# Altium integrated library NSC Interface.IntLib: 1288 symbols (part 43 of 45)
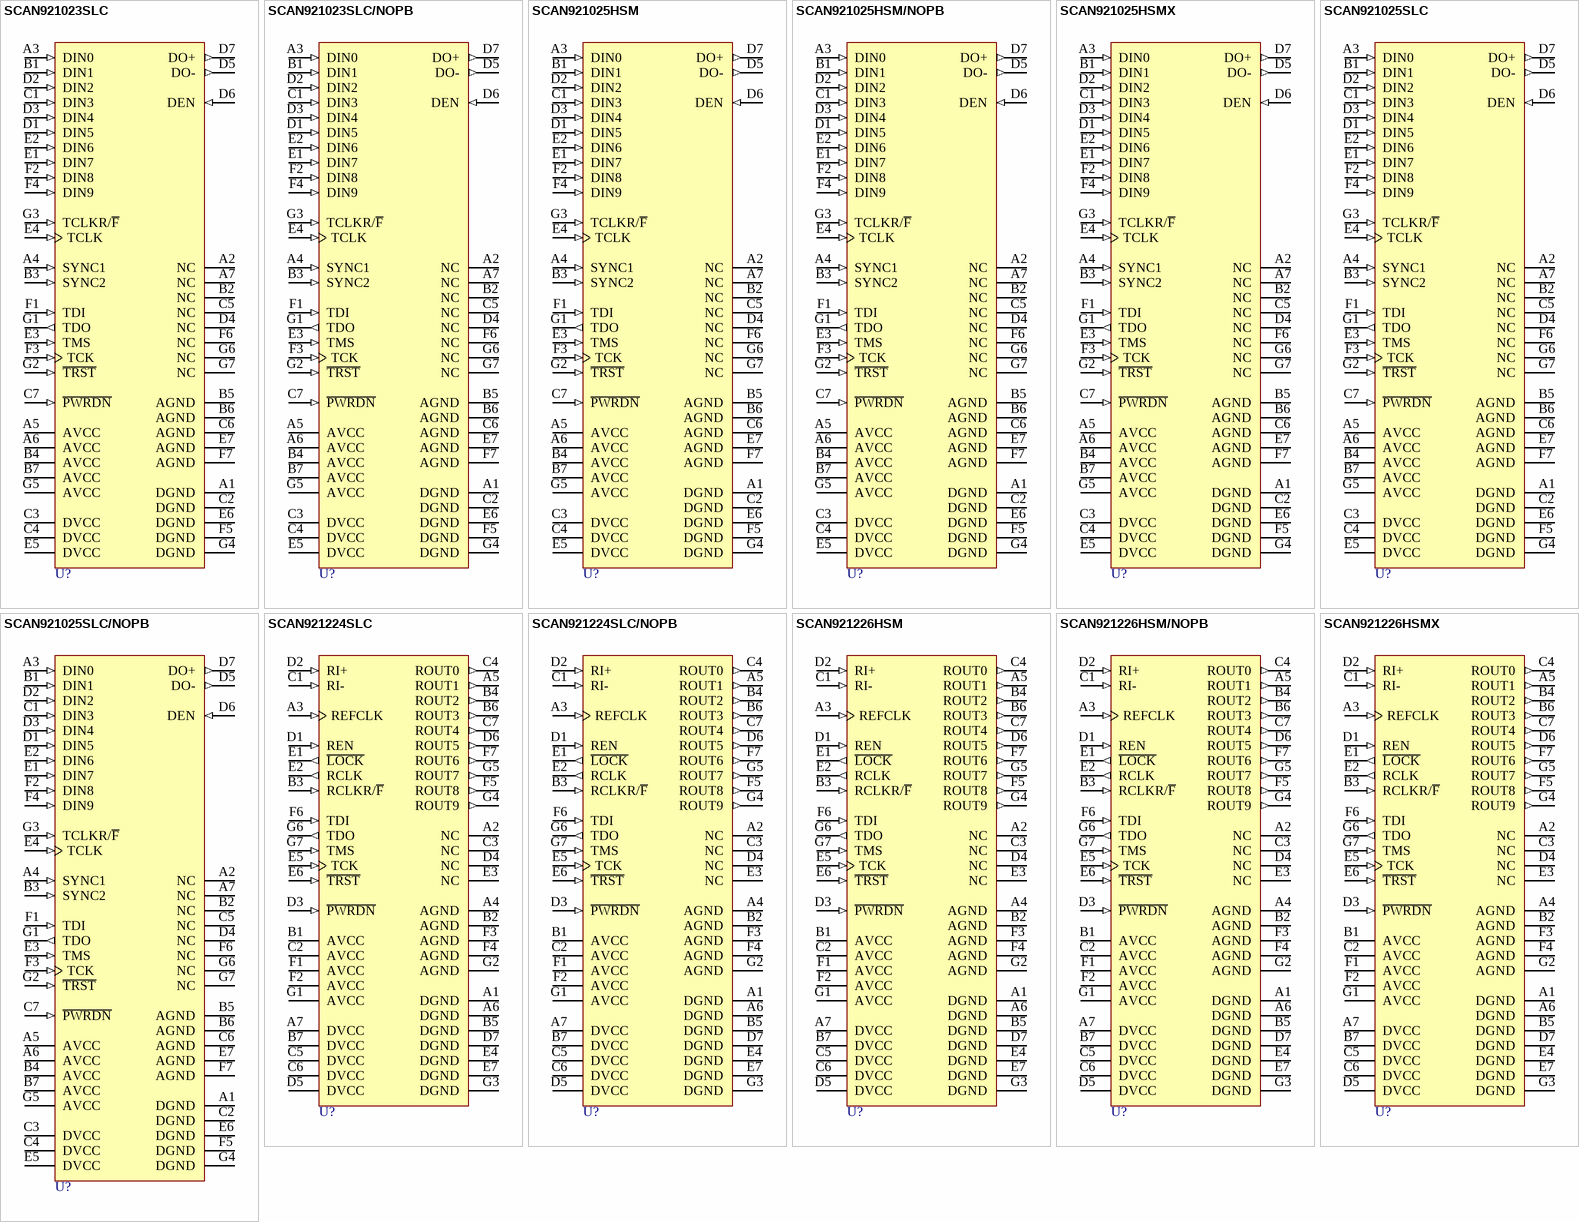
[diagram p154: symbols SCAN921023SLC to SCAN921226HSMX]

## SCAN921025HSM/NOPB
designator U?
High Temperature 20MHz - 80MHz 10-Bit Serializer with IEEE 1149.1 Test Access, 49-pin FBGA, Pb-Free; PartNumber: SCAN921025HSM/NOPB; Manufacturer: National Semiconductor; PackageTopMarking: NSUZXYTTE#*SCAN921025*HSM; PowerWise: N; CompType: Interface IC; Published: 1-Mar-2010; DatasheetVersion: Dec-2005; PackageVersion: revB, Jan, 2003; PackageReference: SLC49A; Publisher: Altium Limited; PackageDescription: FBGA, Plastic, Laminated, 7 x 7 x 1.4mm Body, 49 Ball, 0.8mm Pitch; Supplier 1: Digi-Key; Supplier Part Number 1: SCAN921025HSM-ND; RoHS: Y; PinCount: 49; ComponentLink1Description: SCAN921025H Datasheet; ComponentLink1URL: http://www.national.com/ds/SC/SCAN921025H.pdf; ComponentLink2Description: SCAN921025H Web Page; ComponentLink2URL: http://www.national.com/pf/SC/SCAN921025H.html; ComponentLink3Description: SLC49A Package Page; ComponentLink3URL: http://www.national.com/packaging/folders/slc49a.html
footprint SLC49A (BGA, 49-Leads, Body 7x7mm, Pitch 0.8mm)
pins: A1 DGND (power), A2 NC, A3 DIN0 (in), A4 SYNC1 (in), A5 AVCC (power), A6 AVCC (power), A7 NC, B1 DIN1 (in), B2 NC, B3 SYNC2 (in), B4 AVCC (power), B5 AGND (power), B6 AGND (power), B7 AVCC (power), C1 DIN3 (in), C2 DGND (power), C3 DVCC (power), C4 DVCC (power), C5 NC, C6 AGND (power), C7 ~{PWRDN} (in), D1 DIN5 (in), D2 DIN2 (in), D3 DIN4 (in), D4 NC, D5 DO- (out), D6 DEN (in), D7 DO+ (out), E1 DIN7 (in), E2 DIN6 (in), E3 TMS (in), E4 TCLK (in), E5 DVCC (power), E6 DGND (power), E7 AGND (power), F1 TDI (in), F2 DIN8 (in), F3 TCK (in), F4 DIN9 (in), F5 DGND (power), F6 NC, F7 AGND (power), G1 TDO (out), G2 ~{TRST} (in), G3 TCLKR/~{F} (in), G4 DGND (power), G5 AVCC (power), G6 NC, G7 NC

## SCAN921025HSMX
designator U?
High Temperature 20MHz - 80MHz 10-Bit Serializer with IEEE 1149.1 Test Access, 49-pin FBGA; PartNumber: SCAN921025HSMX; Manufacturer: National Semiconductor; PackageTopMarking: NSUZXYTTE#*SCAN921025*HSM; PowerWise: N; CompType: Interface IC; Published: 1-Mar-2010; DatasheetVersion: Dec-2005; PackageVersion: revB, Jan, 2003; PackageReference: SLC49A; Publisher: Altium Limited; PackageDescription: FBGA, Plastic, Laminated, 7 x 7 x 1.4mm Body, 49 Ball, 0.8mm Pitch; RoHS: N; PinCount: 49; ComponentLink1Description: SCAN921025H Datasheet; ComponentLink1URL: http://www.national.com/ds/SC/SCAN921025H.pdf; ComponentLink2Description: SCAN921025H Web Page; ComponentLink2URL: http://www.national.com/pf/SC/SCAN921025H.html; ComponentLink3Description: SLC49A Package Page; ComponentLink3URL: http://www.national.com/packaging/folders/slc49a.html
footprint SLC49A (BGA, 49-Leads, Body 7x7mm, Pitch 0.8mm)
pins: A1 DGND (power), A2 NC, A3 DIN0 (in), A4 SYNC1 (in), A5 AVCC (power), A6 AVCC (power), A7 NC, B1 DIN1 (in), B2 NC, B3 SYNC2 (in), B4 AVCC (power), B5 AGND (power), B6 AGND (power), B7 AVCC (power), C1 DIN3 (in), C2 DGND (power), C3 DVCC (power), C4 DVCC (power), C5 NC, C6 AGND (power), C7 ~{PWRDN} (in), D1 DIN5 (in), D2 DIN2 (in), D3 DIN4 (in), D4 NC, D5 DO- (out), D6 DEN (in), D7 DO+ (out), E1 DIN7 (in), E2 DIN6 (in), E3 TMS (in), E4 TCLK (in), E5 DVCC (power), E6 DGND (power), E7 AGND (power), F1 TDI (in), F2 DIN8 (in), F3 TCK (in), F4 DIN9 (in), F5 DGND (power), F6 NC, F7 AGND (power), G1 TDO (out), G2 ~{TRST} (in), G3 TCLKR/~{F} (in), G4 DGND (power), G5 AVCC (power), G6 NC, G7 NC

## SCAN921025SLC
designator U?
30MHz - 80MHz 10-Bit Serializer with IEEE 1149.1 Test Access, 49-pin FBGA; PartNumber: SCAN921025SLC; Manufacturer: National Semiconductor; PackageTopMarking: NSUZXYTTE#*SCAN921025*SLC; PowerWise: N; CompType: Interface IC; Published: 4-Dec-2008; DatasheetVersion: Dec-2001; PackageVersion: revB, Jan, 2003; PackageReference: SLC49A; Publisher: Altium Limited; PackageDescription: FBGA, Plastic, Laminated, 7 x 7 x 1.4mm Body, 49 Ball, 0.8mm Pitch; RoHS: N; PinCount: 49; ComponentLink1Description: SCAN921025 Datasheet; ComponentLink1URL: http://www.national.com/ds/SC/SCAN921025.pdf; ComponentLink2Description: SCAN921025 Web Page; ComponentLink2URL: http://www.national.com/pf/SC/SCAN921025.html; ComponentLink3Description: SLC49A Package Page; ComponentLink3URL: http://www.national.com/packaging/folders/slc49a.html
footprint SLC49A (BGA, 49-Leads, Body 7x7mm, Pitch 0.8mm)
pins: A1 DGND (power), A2 NC, A3 DIN0 (in), A4 SYNC1 (in), A5 AVCC (power), A6 AVCC (power), A7 NC, B1 DIN1 (in), B2 NC, B3 SYNC2 (in), B4 AVCC (power), B5 AGND (power), B6 AGND (power), B7 AVCC (power), C1 DIN3 (in), C2 DGND (power), C3 DVCC (power), C4 DVCC (power), C5 NC, C6 AGND (power), C7 ~{PWRDN} (in), D1 DIN5 (in), D2 DIN2 (in), D3 DIN4 (in), D4 NC, D5 DO- (out), D6 DEN (in), D7 DO+ (out), E1 DIN7 (in), E2 DIN6 (in), E3 TMS (in), E4 TCLK (in), E5 DVCC (power), E6 DGND (power), E7 AGND (power), F1 TDI (in), F2 DIN8 (in), F3 TCK (in), F4 DIN9 (in), F5 DGND (power), F6 NC, F7 AGND (power), G1 TDO (out), G2 ~{TRST} (in), G3 TCLKR/~{F} (in), G4 DGND (power), G5 AVCC (power), G6 NC, G7 NC

## SCAN921025SLC/NOPB
designator U?
30MHz - 80MHz 10-Bit Serializer with IEEE 1149.1 Test Access, 49 pin FBGA; PartNumber: SCAN921025SLC/NOPB; Manufacturer: National Semiconductor; PackageTopMarking: NSUZXYTTE#*SCAN921025*SLC; PowerWise: N; CompType: Interface IC; Published: 16-Nov-2010; DatasheetVersion: Dec-2001; PackageVersion: revB, Jan, 2003; PackageReference: SLC49A; Publisher: Altium Limited; PackageDescription: FBGA, Plastic, Laminated, 7 x 7 x 1.4mm Body, 49 Ball, 0.8mm Pitch; Supplier 1: Digi-Key; Supplier Part Number 1: SCAN921025SLC-ND; RoHS: Y; PinCount: 49; ComponentLink1Description: SCAN921025 Datasheet; ComponentLink1URL: http://www.national.com/ds/SC/SCAN921025.pdf; ComponentLink2Description: SCAN921025 Web Page; ComponentLink2URL: http://www.national.com/pf/SC/SCAN921025.html; ComponentLink3Description: SLC49A Package Page; ComponentLink3URL: http://www.national.com/packaging/folders/slc49a.html
footprint SLC49A (BGA, 49-Leads, Body 7x7mm, Pitch 0.8mm)
pins: A1 DGND (power), A2 NC, A3 DIN0 (in), A4 SYNC1 (in), A5 AVCC (power), A6 AVCC (power), A7 NC, B1 DIN1 (in), B2 NC, B3 SYNC2 (in), B4 AVCC (power), B5 AGND (power), B6 AGND (power), B7 AVCC (power), C1 DIN3 (in), C2 DGND (power), C3 DVCC (power), C4 DVCC (power), C5 NC, C6 AGND (power), C7 ~{PWRDN} (in), D1 DIN5 (in), D2 DIN2 (in), D3 DIN4 (in), D4 NC, D5 DO- (out), D6 DEN (in), D7 DO+ (out), E1 DIN7 (in), E2 DIN6 (in), E3 TMS (in), E4 TCLK (in), E5 DVCC (power), E6 DGND (power), E7 AGND (power), F1 TDI (in), F2 DIN8 (in), F3 TCK (in), F4 DIN9 (in), F5 DGND (power), F6 NC, F7 AGND (power), G1 TDO (out), G2 ~{TRST} (in), G3 TCLKR/~{F} (in), G4 DGND (power), G5 AVCC (power), G6 NC, G7 NC

## SCAN921224SLC
designator U?
20 MHz-66MHz 10-Bit Deserializer with IEEE 1149.1 Test Access, 49-pin FBGA; PartNumber: SCAN921224SLC; Manufacturer: National Semiconductor; PackageTopMarking: NSUZXYTTE#*SCAN921224*SLC; PowerWise: N; CompType: Interface IC; Published: 4-Dec-2008; DatasheetVersion: Apr-2001; PackageVersion: revB, Jan, 2003; PackageReference: SLC49A; Publisher: Altium Limited; PackageDescription: FBGA, Plastic, Laminated, 7 x 7 x 1.4mm Body, 49 Ball, 0.8mm Pitch; RoHS: N; PinCount: 49; ComponentLink1Description: SCAN921224 Datasheet; ComponentLink1URL: http://www.national.com/ds/SC/SCAN921224.pdf; ComponentLink2Description: SCAN921224 Web Page; ComponentLink2URL: http://www.national.com/pf/SC/SCAN921224.html; ComponentLink3Description: SLC49A Package Page; ComponentLink3URL: http://www.national.com/packaging/folders/slc49a.html
footprint SLC49A (BGA, 49-Leads, Body 7x7mm, Pitch 0.8mm)
pins: A1 DGND (power), A2 NC, A3 REFCLK (in), A4 AGND (power), A5 ROUT1 (out), A6 DGND (power), A7 DVCC (power), B1 AVCC (power), B2 AGND (power), B3 RCLKR/~{F} (in), B4 ROUT2 (out), B5 DGND (power), B6 ROUT3 (out), B7 DVCC (power), C1 RI- (in), C2 AVCC (power), C3 NC, C4 ROUT0 (out), C5 DVCC (power), C6 DVCC (power), C7 ROUT4 (out), D1 REN (in), D2 RI+ (in), D3 ~{PWRDN} (in), D4 NC, D5 DVCC (power), D6 ROUT5 (out), D7 DGND (power), E1 ~{LOCK} (out), E2 RCLK (out), E3 NC, E4 DGND (power), E5 TCK (in), E6 ~{TRST} (in), E7 DGND (power), F1 AVCC (power), F2 AVCC (power), F3 AGND (power), F4 AGND (power), F5 ROUT8 (out), F6 TDI (in), F7 ROUT6 (out), G1 AVCC (power), G2 AGND (power), G3 DGND (power), G4 ROUT9 (out), G5 ROUT7 (out), G6 TDO (out), G7 TMS (in)

## SCAN921224SLC/NOPB
designator U?
20 MHz-66MHz 10-Bit Deserializer with IEEE 1149.1 Test Access, 49-pin FBGA, Pb-Free; PartNumber: SCAN921224SLC/NOPB; Manufacturer: National Semiconductor; PackageTopMarking: NSUZXYTTE#*SCAN921224*SLC; PowerWise: N; CompType: Interface IC; Published: 1-Mar-2010; DatasheetVersion: Apr-2001; PackageVersion: revB, Jan, 2003; PackageReference: SLC49A; Publisher: Altium Limited; PackageDescription: FBGA, Plastic, Laminated, 7 x 7 x 1.4mm Body, 49 Ball, 0.8mm Pitch; Supplier 1: Digi-Key; Supplier Part Number 1: SCAN921224SLC-ND; RoHS: Y; PinCount: 49; ComponentLink1Description: SCAN921224 Datasheet; ComponentLink1URL: http://www.national.com/ds/SC/SCAN921224.pdf; ComponentLink2Description: SCAN921224 Web Page; ComponentLink2URL: http://www.national.com/pf/SC/SCAN921224.html; ComponentLink3Description: SLC49A Package Page; ComponentLink3URL: http://www.national.com/packaging/folders/slc49a.html
footprint SLC49A (BGA, 49-Leads, Body 7x7mm, Pitch 0.8mm)
pins: A1 DGND (power), A2 NC, A3 REFCLK (in), A4 AGND (power), A5 ROUT1 (out), A6 DGND (power), A7 DVCC (power), B1 AVCC (power), B2 AGND (power), B3 RCLKR/~{F} (in), B4 ROUT2 (out), B5 DGND (power), B6 ROUT3 (out), B7 DVCC (power), C1 RI- (in), C2 AVCC (power), C3 NC, C4 ROUT0 (out), C5 DVCC (power), C6 DVCC (power), C7 ROUT4 (out), D1 REN (in), D2 RI+ (in), D3 ~{PWRDN} (in), D4 NC, D5 DVCC (power), D6 ROUT5 (out), D7 DGND (power), E1 ~{LOCK} (out), E2 RCLK (out), E3 NC, E4 DGND (power), E5 TCK (in), E6 ~{TRST} (in), E7 DGND (power), F1 AVCC (power), F2 AVCC (power), F3 AGND (power), F4 AGND (power), F5 ROUT8 (out), F6 TDI (in), F7 ROUT6 (out), G1 AVCC (power), G2 AGND (power), G3 DGND (power), G4 ROUT9 (out), G5 ROUT7 (out), G6 TDO (out), G7 TMS (in)

## SCAN921226HSM
designator U?
High Temperature 20MHz - 80MHz 10-Bit Deserializer with IEEE 1149.1 Test Access, 49-pin FBGA; PartNumber: SCAN921226HSM; Manufacturer: National Semiconductor; PackageTopMarking: NSUZXYTTE#*SCAN921226*HSM; PowerWise: N; CompType: Interface IC; Published: 4-Dec-2008; DatasheetVersion: Dec-2005; PackageVersion: revB, Jan, 2003; PackageReference: SLC49A; Publisher: Altium Limited; PackageDescription: FBGA, Plastic, Laminated, 7 x 7 x 1.4mm Body, 49 Ball, 0.8mm Pitch; RoHS: N; PinCount: 49; ComponentLink1Description: SCAN921226H Datasheet; ComponentLink1URL: http://www.national.com/ds/SC/SCAN921226H.pdf; ComponentLink2Description: SCAN921226H Web Page; ComponentLink2URL: http://www.national.com/pf/SC/SCAN921226H.html; ComponentLink3Description: SLC49A Package Page; ComponentLink3URL: http://www.national.com/packaging/folders/slc49a.html
footprint SLC49A (BGA, 49-Leads, Body 7x7mm, Pitch 0.8mm)
pins: A1 DGND (power), A2 NC, A3 REFCLK (in), A4 AGND (power), A5 ROUT1 (out), A6 DGND (power), A7 DVCC (power), B1 AVCC (power), B2 AGND (power), B3 RCLKR/~{F} (in), B4 ROUT2 (out), B5 DGND (power), B6 ROUT3 (out), B7 DVCC (power), C1 RI- (in), C2 AVCC (power), C3 NC, C4 ROUT0 (out), C5 DVCC (power), C6 DVCC (power), C7 ROUT4 (out), D1 REN (in), D2 RI+ (in), D3 ~{PWRDN} (in), D4 NC, D5 DVCC (power), D6 ROUT5 (out), D7 DGND (power), E1 ~{LOCK} (out), E2 RCLK (out), E3 NC, E4 DGND (power), E5 TCK (in), E6 ~{TRST} (in), E7 DGND (power), F1 AVCC (power), F2 AVCC (power), F3 AGND (power), F4 AGND (power), F5 ROUT8 (out), F6 TDI (in), F7 ROUT6 (out), G1 AVCC (power), G2 AGND (power), G3 DGND (power), G4 ROUT9 (out), G5 ROUT7 (out), G6 TDO (out), G7 TMS (in)

## SCAN921226HSM/NOPB
designator U?
High Temperature 20MHz - 80MHz 10-Bit Deserializer with IEEE 1149.1 Test Access, 49-pin FBGA, Pb-Free; PartNumber: SCAN921226HSM/NOPB; Manufacturer: National Semiconductor; PackageTopMarking: NSUZXYTTE#*SCAN921226*HSM; PowerWise: N; CompType: Interface IC; Published: 1-Mar-2010; DatasheetVersion: Dec-2005; PackageVersion: revB, Jan, 2003; PackageReference: SLC49A; Publisher: Altium Limited; PackageDescription: FBGA, Plastic, Laminated, 7 x 7 x 1.4mm Body, 49 Ball, 0.8mm Pitch; Supplier 1: Digi-Key; Supplier Part Number 1: SCAN921226HSM-ND; RoHS: Y; PinCount: 49; ComponentLink1Description: SCAN921226H Datasheet; ComponentLink1URL: http://www.national.com/ds/SC/SCAN921226H.pdf; ComponentLink2Description: SCAN921226H Web Page; ComponentLink2URL: http://www.national.com/pf/SC/SCAN921226H.html; ComponentLink3Description: SLC49A Package Page; ComponentLink3URL: http://www.national.com/packaging/folders/slc49a.html
footprint SLC49A (BGA, 49-Leads, Body 7x7mm, Pitch 0.8mm)
pins: A1 DGND (power), A2 NC, A3 REFCLK (in), A4 AGND (power), A5 ROUT1 (out), A6 DGND (power), A7 DVCC (power), B1 AVCC (power), B2 AGND (power), B3 RCLKR/~{F} (in), B4 ROUT2 (out), B5 DGND (power), B6 ROUT3 (out), B7 DVCC (power), C1 RI- (in), C2 AVCC (power), C3 NC, C4 ROUT0 (out), C5 DVCC (power), C6 DVCC (power), C7 ROUT4 (out), D1 REN (in), D2 RI+ (in), D3 ~{PWRDN} (in), D4 NC, D5 DVCC (power), D6 ROUT5 (out), D7 DGND (power), E1 ~{LOCK} (out), E2 RCLK (out), E3 NC, E4 DGND (power), E5 TCK (in), E6 ~{TRST} (in), E7 DGND (power), F1 AVCC (power), F2 AVCC (power), F3 AGND (power), F4 AGND (power), F5 ROUT8 (out), F6 TDI (in), F7 ROUT6 (out), G1 AVCC (power), G2 AGND (power), G3 DGND (power), G4 ROUT9 (out), G5 ROUT7 (out), G6 TDO (out), G7 TMS (in)

## SCAN921226HSMX
designator U?
High Temperature 20MHz - 80MHz 10-Bit Deserializer with IEEE 1149.1 Test Access, 49-pin FBGA; PartNumber: SCAN921226HSMX; Manufacturer: National Semiconductor; PackageTopMarking: NSUZXYTTE#*SCAN921226*HSM; PowerWise: N; CompType: Interface IC; Published: 1-Mar-2010; DatasheetVersion: Dec-2005; PackageVersion: revB, Jan, 2003; PackageReference: SLC49A; Publisher: Altium Limited; PackageDescription: FBGA, Plastic, Laminated, 7 x 7 x 1.4mm Body, 49 Ball, 0.8mm Pitch; RoHS: N; PinCount: 49; ComponentLink1Description: SCAN921226H Datasheet; ComponentLink1URL: http://www.national.com/ds/SC/SCAN921226H.pdf; ComponentLink2Description: SCAN921226H Web Page; ComponentLink2URL: http://www.national.com/pf/SC/SCAN921226H.html; ComponentLink3Description: SLC49A Package Page; ComponentLink3URL: http://www.national.com/packaging/folders/slc49a.html
footprint SLC49A (BGA, 49-Leads, Body 7x7mm, Pitch 0.8mm)
pins: A1 DGND (power), A2 NC, A3 REFCLK (in), A4 AGND (power), A5 ROUT1 (out), A6 DGND (power), A7 DVCC (power), B1 AVCC (power), B2 AGND (power), B3 RCLKR/~{F} (in), B4 ROUT2 (out), B5 DGND (power), B6 ROUT3 (out), B7 DVCC (power), C1 RI- (in), C2 AVCC (power), C3 NC, C4 ROUT0 (out), C5 DVCC (power), C6 DVCC (power), C7 ROUT4 (out), D1 REN (in), D2 RI+ (in), D3 ~{PWRDN} (in), D4 NC, D5 DVCC (power), D6 ROUT5 (out), D7 DGND (power), E1 ~{LOCK} (out), E2 RCLK (out), E3 NC, E4 DGND (power), E5 TCK (in), E6 ~{TRST} (in), E7 DGND (power), F1 AVCC (power), F2 AVCC (power), F3 AGND (power), F4 AGND (power), F5 ROUT8 (out), F6 TDI (in), F7 ROUT6 (out), G1 AVCC (power), G2 AGND (power), G3 DGND (power), G4 ROUT9 (out), G5 ROUT7 (out), G6 TDO (out), G7 TMS (in)

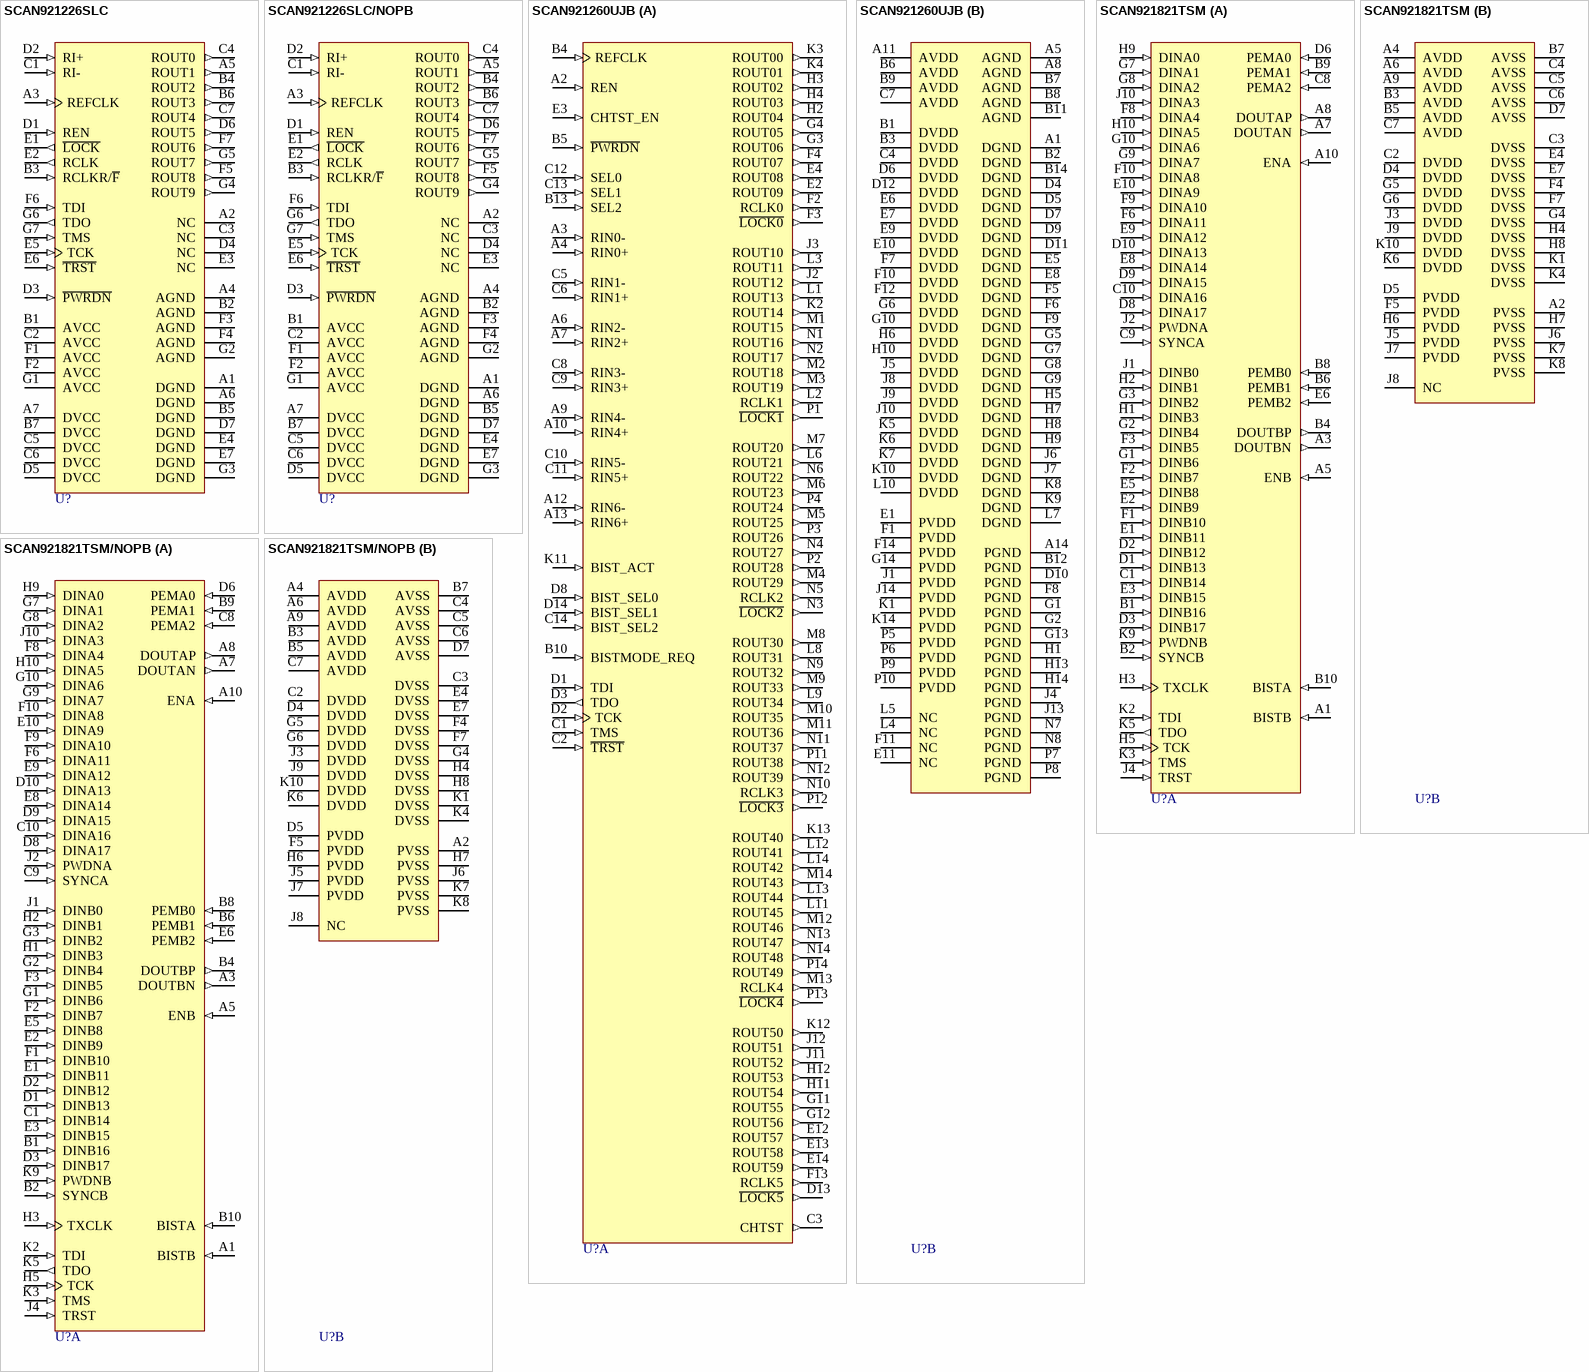
[diagram p104: symbols SCAN921226SLC to SCAN921821TSM/NOPB]

## SCAN921226SLC
designator U?
30MHz - 80MHz 10-Bit Deserializer with IEEE 1149.1 Test Access, 49-pin FBGA; PartNumber: SCAN921226SLC; Manufacturer: National Semiconductor; PackageTopMarking: NSUZXYTTE#*SCAN921226*SLC; PowerWise: N; CompType: Interface IC; Published: 4-Dec-2008; DatasheetVersion: Dec-2001; PackageVersion: revB, Jan, 2003; PackageReference: SLC49A; Publisher: Altium Limited; PackageDescription: FBGA, Plastic, Laminated, 7 x 7 x 1.4mm Body, 49 Ball, 0.8mm Pitch; RoHS: N; PinCount: 49; ComponentLink1Description: SCAN921226 Datasheet; ComponentLink1URL: http://www.national.com/ds/SC/SCAN921226.pdf; ComponentLink2Description: SCAN921226 Web Page; ComponentLink2URL: http://www.national.com/pf/SC/SCAN921226.html; ComponentLink3Description: SLC49A Package Page; ComponentLink3URL: http://www.national.com/packaging/folders/slc49a.html
footprint SLC49A (BGA, 49-Leads, Body 7x7mm, Pitch 0.8mm)
pins: A1 DGND (power), A2 NC, A3 REFCLK (in), A4 AGND (power), A5 ROUT1 (out), A6 DGND (power), A7 DVCC (power), B1 AVCC (power), B2 AGND (power), B3 RCLKR/~{F} (in), B4 ROUT2 (out), B5 DGND (power), B6 ROUT3 (out), B7 DVCC (power), C1 RI- (in), C2 AVCC (power), C3 NC, C4 ROUT0 (out), C5 DVCC (power), C6 DVCC (power), C7 ROUT4 (out), D1 REN (in), D2 RI+ (in), D3 ~{PWRDN} (in), D4 NC, D5 DVCC (power), D6 ROUT5 (out), D7 DGND (power), E1 ~{LOCK} (out), E2 RCLK (out), E3 NC, E4 DGND (power), E5 TCK (in), E6 ~{TRST} (in), E7 DGND (power), F1 AVCC (power), F2 AVCC (power), F3 AGND (power), F4 AGND (power), F5 ROUT8 (out), F6 TDI (in), F7 ROUT6 (out), G1 AVCC (power), G2 AGND (power), G3 DGND (power), G4 ROUT9 (out), G5 ROUT7 (out), G6 TDO (out), G7 TMS (in)

## SCAN921226SLC/NOPB
designator U?
30MHz - 80MHz 10-Bit Deserializer with IEEE 1149.1 Test Access, 49 pin FBGA; PartNumber: SCAN921226SLC/NOPB; Manufacturer: National Semiconductor; PackageTopMarking: NSUZXYTTE#*SCAN921226*SLC; PowerWise: N; CompType: Interface IC; Published: 16-Nov-2010; DatasheetVersion: Dec-2001; PackageVersion: revB, Jan, 2003; PackageReference: SLC49A; Publisher: Altium Limited; PackageDescription: FBGA, Plastic, Laminated, 7 x 7 x 1.4mm Body, 49 Ball, 0.8mm Pitch; Supplier 1: Digi-Key; Supplier Part Number 1: SCAN921226SLC-ND; RoHS: Y; PinCount: 49; ComponentLink1Description: SCAN921226 Datasheet; ComponentLink1URL: http://www.national.com/ds/SC/SCAN921226.pdf; ComponentLink2Description: SCAN921226 Web Page; ComponentLink2URL: http://www.national.com/pf/SC/SCAN921226.html; ComponentLink3Description: SLC49A Package Page; ComponentLink3URL: http://www.national.com/packaging/folders/slc49a.html
footprint SLC49A (BGA, 49-Leads, Body 7x7mm, Pitch 0.8mm)
pins: A1 DGND (power), A2 NC, A3 REFCLK (in), A4 AGND (power), A5 ROUT1 (out), A6 DGND (power), A7 DVCC (power), B1 AVCC (power), B2 AGND (power), B3 RCLKR/~{F} (in), B4 ROUT2 (out), B5 DGND (power), B6 ROUT3 (out), B7 DVCC (power), C1 RI- (in), C2 AVCC (power), C3 NC, C4 ROUT0 (out), C5 DVCC (power), C6 DVCC (power), C7 ROUT4 (out), D1 REN (in), D2 RI+ (in), D3 ~{PWRDN} (in), D4 NC, D5 DVCC (power), D6 ROUT5 (out), D7 DGND (power), E1 ~{LOCK} (out), E2 RCLK (out), E3 NC, E4 DGND (power), E5 TCK (in), E6 ~{TRST} (in), E7 DGND (power), F1 AVCC (power), F2 AVCC (power), F3 AGND (power), F4 AGND (power), F5 ROUT8 (out), F6 TDI (in), F7 ROUT6 (out), G1 AVCC (power), G2 AGND (power), G3 DGND (power), G4 ROUT9 (out), G5 ROUT7 (out), G6 TDO (out), G7 TMS (in)

## SCAN921260UJB
designator U?
Six 1 to 10 deserializers with IEEE 1149.1 and at-speed BIST, 196-pin LBGA; PartNumber: SCAN921260UJB; Manufacturer: National Semiconductor; PackageTopMarking: NSUZXYYTTE#*SCAN921260*UJB; PowerWise: N; CompType: Interface IC; Published: 4-Dec-2008; DatasheetVersion: Jul-2004; PackageVersion: revC, Jul-2005; PackageReference: UJB196A; Publisher: Altium Limited; PackageDescription: LBGA, 15 x 15 x 1.37mm, 196 Ball, 1.0mm Pitch; RoHS: N; PinCount: 196; Code_JEDEC: MO-192-AAE-1; ComponentLink1Description: SCAN921260 Datasheet; ComponentLink1URL: http://www.national.com/ds/SC/SCAN921260.pdf; ComponentLink2Description: SCAN921260 Web Page; ComponentLink2URL: http://www.national.com/pf/SC/SCAN921260.html; ComponentLink3Description: UJB196A Package Page; ComponentLink3URL: http://www.national.com/packaging/folders/ujb196a.html
footprint UJB196A (BGA, 196-Leads, Body 15x15mm, Pitch 1mm)
part A pins: A2 REN (in), A3 RIN0- (in), A4 RIN0+ (in), A6 RIN2- (in), A7 RIN2+ (in), A9 RIN4- (in), A10 RIN4+ (in), A12 RIN6- (in), A13 RIN6+ (in), B4 REFCLK (in), B5 ~{PWRDN} (in), B10 BISTMODE_REQ (in), B13 SEL2 (in), C1 TMS (in), C2 ~{TRST} (in), C3 CHTST (out), C5 RIN1- (in), C6 RIN1+ (in), C8 RIN3- (in), C9 RIN3+ (in), C10 RIN5- (in), C11 RIN5+ (in), C12 SEL0 (in), C13 SEL1 (in), C14 BIST_SEL2 (in), D1 TDI (in), D2 TCK (in), D3 TDO (out), D8 BIST_SEL0 (in), D13 ~{LOCK5} (out), D14 BIST_SEL1 (in), E2 ROUT09 (out), E3 CHTST_EN (in), E4 ROUT08 (out), E12 ROUT57 (out), E13 ROUT58 (out), E14 ROUT59 (out), F2 RCLK0 (out), F3 ~{LOCK0} (out), F4 ROUT07 (out), F13 RCLK5 (out), G3 ROUT06 (out), G4 ROUT05 (out), G11 ROUT55 (out), G12 ROUT56 (out), H2 ROUT04 (out), H3 ROUT02 (out), H4 ROUT03 (out), H11 ROUT54 (out), H12 ROUT53 (out), J2 ROUT12 (out), J3 ROUT10 (out), J11 ROUT52 (out), J12 ROUT51 (out), K2 ROUT14 (out), K3 ROUT00 (out), K4 ROUT01 (out), K11 BIST_ACT (in), K12 ROUT50 (out), K13 ROUT40 (out), L1 ROUT13 (out), L2 RCLK1 (out), L3 ROUT11 (out), L6 ROUT21 (out), L8 ROUT31 (out), L9 ROUT34 (out), L11 ROUT45 (out), L12 ROUT41 (out), L13 ROUT44 (out), L14 ROUT42 (out), M1 ROUT15 (out), M2 ROUT18 (out), M3 ROUT19 (out), M4 ROUT29 (out), M5 ROUT25 (out), M6 ROUT23 (out), M7 ROUT20 (out), M8 ROUT30 (out), M9 ROUT33 (out), M10 ROUT35 (out), M11 ROUT36 (out), M12 ROUT46 (out), M13 RCLK4 (out), M14 ROUT43 (out), N1 ROUT16 (out), N2 ROUT17 (out), N3 ~{LOCK2} (out), N4 ROUT27 (out), N5 RCLK2 (out), N6 ROUT22 (out), N9 ROUT32 (out), N10 RCLK3 (out), N11 ROUT37 (out), N12 ROUT39 (out), N13 ROUT47 (out), N14 ROUT48 (out), P1 ~{LOCK1} (out), P2 ROUT28 (out), P3 ROUT26 (out), P4 ROUT24 (out), P11 ROUT38 (out), P12 ~{LOCK3} (out), P13 ~{LOCK4} (out), P14 ROUT49 (out)
part B pins: A1 DGND (power), A5 AGND (power), A8 AGND (power), A11 AVDD (power), A14 PGND (power), B1 DVDD (power), B2 DGND (power), B3 DVDD (power), B6 AVDD (power), B7 AGND (power), B8 AGND (power), B9 AVDD (power), B11 AGND (power), B12 PGND (power), B14 DGND (power), C4 DVDD (power), C7 AVDD (power), D4 DGND (power), D5 DGND (power), D6 DVDD (power), D7 DGND (power), D9 DGND (power), D10 PGND (power), D11 DGND (power), D12 DVDD (power), E1 PVDD (power), E5 DGND (power), E6 DVDD (power), E7 DVDD (power), E8 DGND (power), E9 DVDD (power), E10 DVDD (power), E11 NC, F1 PVDD (power), F5 DGND (power), F6 DGND (power), F7 DVDD (power), F8 PGND (power), F9 DGND (power), F10 DVDD (power), F11 NC, F12 DVDD (power), F14 PVDD (power), G1 PGND (power), G2 PGND (power), G5 DGND (power), G6 DVDD (power), G7 DGND (power), G8 DGND (power), G9 DGND (power), G10 DVDD (power), G13 PGND (power), G14 PVDD (power), H1 PGND (power), H5 DGND (power), H6 DVDD (power), H7 DGND (power), H8 DGND (power), H9 DGND (power), H10 DVDD (power), H13 PGND (power), H14 PGND (power), J1 PVDD (power), J4 PGND (power), J5 DVDD (power), J6 DGND (power), J7 DGND (power), J8 DVDD (power), J9 DVDD (power), J10 DVDD (power), J13 PGND (power), J14 PVDD (power), K1 PVDD (power), K5 DVDD (power), K6 DVDD (power), K7 DVDD (power), K8 DGND (power), K9 DGND (power), K10 DVDD (power), K14 PVDD (power), L4 NC, L5 NC, L7 DGND (power), L10 DVDD (power), N7 PGND (power), N8 PGND (power), P5 PVDD (power), P6 PVDD (power), P7 PGND (power), P8 PGND (power), P9 PVDD (power), P10 PVDD (power)

## SCAN921821TSM
designator U?
Dual 18-Bit Serializer with Pre-Emphasis, IEEE 1149.1 (JTAG), and At-Speed BIST, 100-pin FBGA; PartNumber: SCAN921821TSM; Manufacturer: National Semiconductor; PackageTopMarking: NSUZXYTTE#*SCAN921821*TSM; PowerWise: N; CompType: Interface IC; Published: 4-Dec-2008; DatasheetVersion: Nov-2004; PackageVersion: revB, Mar-1999; PackageReference: SLC100A; Publisher: Altium Limited; PackageDescription: FBGA, Plastic, Laminated, 10 x 10 x 1.4mm Body, 100 Ball, 0.8mm Pitch; RoHS: N; PinCount: 100; ComponentLink1Description: SCAN921821 Datasheet; ComponentLink1URL: http://www.national.com/ds/SC/SCAN921821.pdf; ComponentLink2Description: SCAN921821 Web Page; ComponentLink2URL: http://www.national.com/pf/SC/SCAN921821.html; ComponentLink3Description: SLC100A Package Page; ComponentLink3URL: http://www.national.com/packaging/folders/slc100a.html
footprint SLC100A (BGA, 100-Leads, Body 10x10mm, Pitch 0.8mm)
part A pins: A1 BISTB (in), A3 DOUTBN (out), A5 ENB (in), A7 DOUTAN (out), A8 DOUTAP (out), A10 ENA (in), B1 DINB16 (in), B2 SYNCB (in), B4 DOUTBP (out), B6 PEMB1 (in), B8 PEMB0 (in), B9 PEMA1 (in), B10 BISTA (in), C1 DINB14 (in), C8 PEMA2 (in), C9 SYNCA (in), C10 DINA16 (in), D1 DINB13 (in), D2 DINB12 (in), D3 DINB17 (in), D6 PEMA0 (in), D8 DINA17 (in), D9 DINA15 (in), D10 DINA13 (in), E1 DINB11 (in), E2 DINB9 (in), E3 DINB15 (in), E5 DINB8 (in), E6 PEMB2 (in), E8 DINA14 (in), E9 DINA12 (in), E10 DINA9 (in), F1 DINB10 (in), F2 DINB7 (in), F3 DINB5 (in), F6 DINA11 (in), F8 DINA4 (in), F9 DINA10 (in), F10 DINA8 (in), G1 DINB6 (in), G2 DINB4 (in), G3 DINB2 (in), G7 DINA1 (in), G8 DINA2 (in), G9 DINA7 (in), G10 DINA6 (in), H1 DINB3 (in), H2 DINB1 (in), H3 TXCLK (in), H5 TCK (in), H9 DINA0 (in), H10 DINA5 (in), J1 DINB0 (in), J2 PWDNA (in), J4 TRST (in), J10 DINA3 (in), K2 TDI (in), K3 TMS (in), K5 TDO (out), K9 PWDNB (in)
part B pins: A2 PVSS (power), A4 AVDD (power), A6 AVDD (power), A9 AVDD (power), B3 AVDD (power), B5 AVDD (power), B7 AVSS (power), C2 DVDD (power), C3 DVSS (power), C4 AVSS (power), C5 AVSS (power), C6 AVSS (power), C7 AVDD (power), D4 DVDD (power), D5 PVDD (power), D7 AVSS (power), E4 DVSS (power), E7 DVSS (power), F4 DVSS (power), F5 PVDD (power), F7 DVSS (power), G4 DVSS (power), G5 DVDD (power), G6 DVDD (power), H4 DVSS (power), H6 PVDD (power), H7 PVSS (power), H8 DVSS (power), J3 DVDD (power), J5 PVDD (power), J6 PVSS (power), J7 PVDD (power), J8 NC, J9 DVDD (power), K1 DVSS (power), K4 DVSS (power), K6 DVDD (power), K7 PVSS (power), K8 PVSS (power), K10 DVDD (power)

## SCAN921821TSM/NOPB
designator U?
Dual 18-Bit Serializer with Pre-Emphasis, IEEE 1149.1 (JTAG), and At-Speed BIST, 100-pin FBGA, Pb-Free; PartNumber: SCAN921821TSM/NOPB; Manufacturer: National Semiconductor; PackageTopMarking: NSUZXYTTE#*SCAN921821*TSM; PowerWise: N; CompType: Interface IC; Published: 1-Mar-2010; DatasheetVersion: Nov-2004; PackageVersion: revB, Mar-1999; PackageReference: SLC100A; Publisher: Altium Limited; PackageDescription: FBGA, Plastic, Laminated, 10 x 10 x 1.4mm Body, 100 Ball, 0.8mm Pitch; Supplier 1: Digi-Key; Supplier Part Number 1: SCAN921821TSM-ND; RoHS: Y; PinCount: 100; ComponentLink1Description: SCAN921821 Datasheet; ComponentLink1URL: http://www.national.com/ds/SC/SCAN921821.pdf; ComponentLink2Description: SCAN921821 Web Page; ComponentLink2URL: http://www.national.com/pf/SC/SCAN921821.html; ComponentLink3Description: SLC100A Package Page; ComponentLink3URL: http://www.national.com/packaging/folders/slc100a.html
footprint SLC100A (BGA, 100-Leads, Body 10x10mm, Pitch 0.8mm)
part A pins: A1 BISTB (in), A3 DOUTBN (out), A5 ENB (in), A7 DOUTAN (out), A8 DOUTAP (out), A10 ENA (in), B1 DINB16 (in), B2 SYNCB (in), B4 DOUTBP (out), B6 PEMB1 (in), B8 PEMB0 (in), B9 PEMA1 (in), B10 BISTA (in), C1 DINB14 (in), C8 PEMA2 (in), C9 SYNCA (in), C10 DINA16 (in), D1 DINB13 (in), D2 DINB12 (in), D3 DINB17 (in), D6 PEMA0 (in), D8 DINA17 (in), D9 DINA15 (in), D10 DINA13 (in), E1 DINB11 (in), E2 DINB9 (in), E3 DINB15 (in), E5 DINB8 (in), E6 PEMB2 (in), E8 DINA14 (in), E9 DINA12 (in), E10 DINA9 (in), F1 DINB10 (in), F2 DINB7 (in), F3 DINB5 (in), F6 DINA11 (in), F8 DINA4 (in), F9 DINA10 (in), F10 DINA8 (in), G1 DINB6 (in), G2 DINB4 (in), G3 DINB2 (in), G7 DINA1 (in), G8 DINA2 (in), G9 DINA7 (in), G10 DINA6 (in), H1 DINB3 (in), H2 DINB1 (in), H3 TXCLK (in), H5 TCK (in), H9 DINA0 (in), H10 DINA5 (in), J1 DINB0 (in), J2 PWDNA (in), J4 TRST (in), J10 DINA3 (in), K2 TDI (in), K3 TMS (in), K5 TDO (out), K9 PWDNB (in)
part B pins: A2 PVSS (power), A4 AVDD (power), A6 AVDD (power), A9 AVDD (power), B3 AVDD (power), B5 AVDD (power), B7 AVSS (power), C2 DVDD (power), C3 DVSS (power), C4 AVSS (power), C5 AVSS (power), C6 AVSS (power), C7 AVDD (power), D4 DVDD (power), D5 PVDD (power), D7 AVSS (power), E4 DVSS (power), E7 DVSS (power), F4 DVSS (power), F5 PVDD (power), F7 DVSS (power), G4 DVSS (power), G5 DVDD (power), G6 DVDD (power), H4 DVSS (power), H6 PVDD (power), H7 PVSS (power), H8 DVSS (power), J3 DVDD (power), J5 PVDD (power), J6 PVSS (power), J7 PVDD (power), J8 NC, J9 DVDD (power), K1 DVSS (power), K4 DVSS (power), K6 DVDD (power), K7 PVSS (power), K8 PVSS (power), K10 DVDD (power)

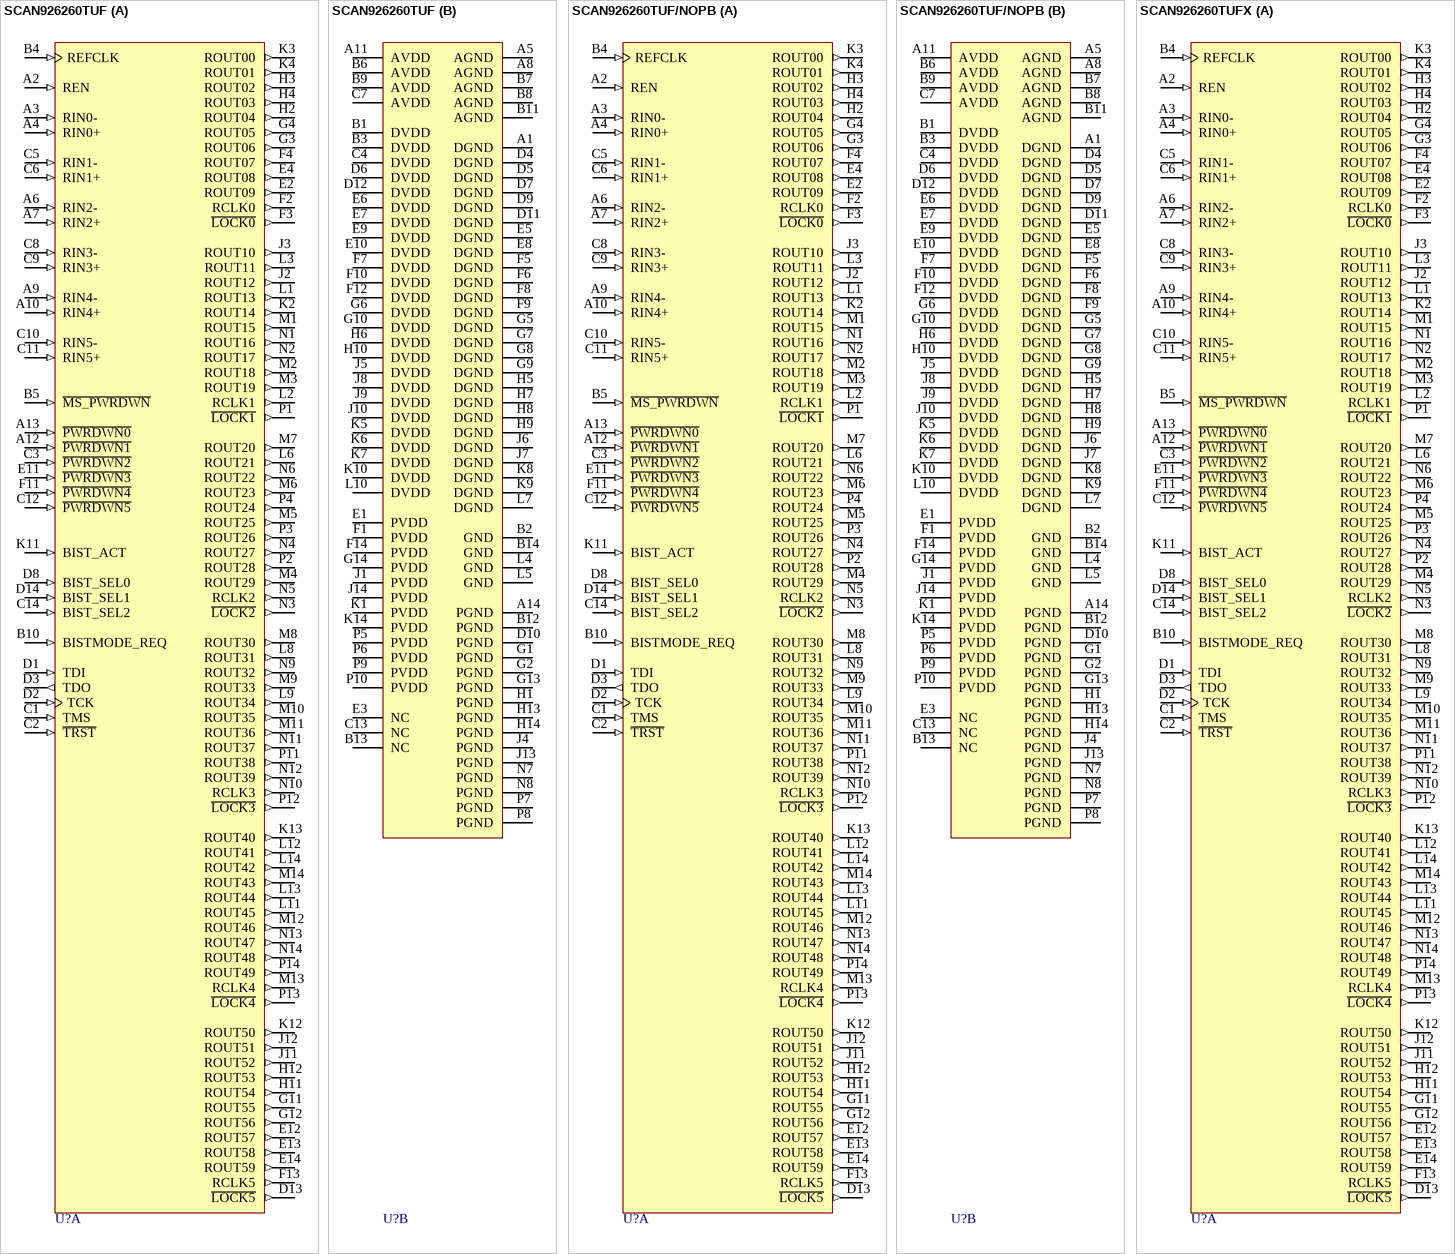
[diagram p105: symbols SCAN926260TUF to SCAN926260TUFX]

## SCAN926260TUF
designator U?
Six 1 to 10 Bus LVDS Deserializers with IEEE 1149.1 and At-Speed BIST, 196-pin LBGA; PartNumber: SCAN926260TUF; Manufacturer: National Semiconductor; PackageTopMarking: NSUZXYYTTE#*SCAN926260T*UF*BBBBB; PowerWise: N; CompType: Interface IC; Published: 4-Dec-2008; DatasheetVersion: May-2008; PackageVersion: revC, Jul-2005; PackageReference: UJB196A; Publisher: Altium Limited; PackageDescription: LBGA, 15 x 15 x 1.37mm, 196 Ball, 1.0mm Pitch; RoHS: N; PinCount: 196; Code_JEDEC: MO-192-AAE-1; ComponentLink1Description: SCAN926260 Datasheet; ComponentLink1URL: http://www.national.com/ds/SC/SCAN926260.pdf; ComponentLink2Description: SCAN926260 Web Page; ComponentLink2URL: http://www.national.com/pf/SC/SCAN926260.html; ComponentLink3Description: UJB196A Package Page; ComponentLink3URL: http://www.national.com/packaging/folders/ujb196a.html
footprint UJB196A (BGA, 196-Leads, Body 15x15mm, Pitch 1mm)
part A pins: A2 REN (in), A3 RIN0- (in), A4 RIN0+ (in), A6 RIN2- (in), A7 RIN2+ (in), A9 RIN4- (in), A10 RIN4+ (in), A12 ~{PWRDWN1} (in), A13 ~{PWRDWN0} (in), B4 REFCLK (in), B5 ~{MS_PWRDWN} (in), B10 BISTMODE_REQ (in), C1 TMS (in), C2 ~{TRST} (in), C3 ~{PWRDWN2} (in), C5 RIN1- (in), C6 RIN1+ (in), C8 RIN3- (in), C9 RIN3+ (in), C10 RIN5- (in), C11 RIN5+ (in), C12 ~{PWRDWN5} (in), C14 BIST_SEL2 (in), D1 TDI (in), D2 TCK (in), D3 TDO (out), D8 BIST_SEL0 (in), D13 ~{LOCK5} (out), D14 BIST_SEL1 (in), E2 ROUT09 (out), E4 ROUT08 (out), E11 ~{PWRDWN3} (in), E12 ROUT57 (out), E13 ROUT58 (out), E14 ROUT59 (out), F2 RCLK0 (out), F3 ~{LOCK0} (out), F4 ROUT07 (out), F11 ~{PWRDWN4} (in), F13 RCLK5 (out), G3 ROUT06 (out), G4 ROUT05 (out), G11 ROUT55 (out), G12 ROUT56 (out), H2 ROUT04 (out), H3 ROUT02 (out), H4 ROUT03 (out), H11 ROUT54 (out), H12 ROUT53 (out), J2 ROUT12 (out), J3 ROUT10 (out), J11 ROUT52 (out), J12 ROUT51 (out), K2 ROUT14 (out), K3 ROUT00 (out), K4 ROUT01 (out), K11 BIST_ACT (in), K12 ROUT50 (out), K13 ROUT40 (out), L1 ROUT13 (out), L2 RCLK1 (out), L3 ROUT11 (out), L6 ROUT21 (out), L8 ROUT31 (out), L9 ROUT34 (out), L11 ROUT45 (out), L12 ROUT41 (out), L13 ROUT44 (out), L14 ROUT42 (out), M1 ROUT15 (out), M2 ROUT18 (out), M3 ROUT19 (out), M4 ROUT29 (out), M5 ROUT25 (out), M6 ROUT23 (out), M7 ROUT20 (out), M8 ROUT30 (out), M9 ROUT33 (out), M10 ROUT35 (out), M11 ROUT36 (out), M12 ROUT46 (out), M13 RCLK4 (out), M14 ROUT43 (out), N1 ROUT16 (out), N2 ROUT17 (out), N3 ~{LOCK2} (out), N4 ROUT27 (out), N5 RCLK2 (out), N6 ROUT22 (out), N9 ROUT32 (out), N10 RCLK3 (out), N11 ROUT37 (out), N12 ROUT39 (out), N13 ROUT47 (out), N14 ROUT48 (out), P1 ~{LOCK1} (out), P2 ROUT28 (out), P3 ROUT26 (out), P4 ROUT24 (out), P11 ROUT38 (out), P12 ~{LOCK3} (out), P13 ~{LOCK4} (out), P14 ROUT49 (out)
part B pins: A1 DGND (power), A5 AGND (power), A8 AGND (power), A11 AVDD (power), A14 PGND (power), B1 DVDD (power), B2 GND (power), B3 DVDD (power), B6 AVDD (power), B7 AGND (power), B8 AGND (power), B9 AVDD (power), B11 AGND (power), B12 PGND (power), B13 NC, B14 GND (power), C4 DVDD (power), C7 AVDD (power), C13 NC, D4 DGND (power), D5 DGND (power), D6 DVDD (power), D7 DGND (power), D9 DGND (power), D10 PGND (power), D11 DGND (power), D12 DVDD (power), E1 PVDD (power), E3 NC, E5 DGND (power), E6 DVDD (power), E7 DVDD (power), E8 DGND (power), E9 DVDD (power), E10 DVDD (power), F1 PVDD (power), F5 DGND (power), F6 DGND (power), F7 DVDD (power), F8 DGND (power), F9 DGND (power), F10 DVDD (power), F12 DVDD (power), F14 PVDD (power), G1 PGND (power), G2 PGND (power), G5 DGND (power), G6 DVDD (power), G7 DGND (power), G8 DGND (power), G9 DGND (power), G10 DVDD (power), G13 PGND (power), G14 PVDD (power), H1 PGND (power), H5 DGND (power), H6 DVDD (power), H7 DGND (power), H8 DGND (power), H9 DGND (power), H10 DVDD (power), H13 PGND (power), H14 PGND (power), J1 PVDD (power), J4 PGND (power), J5 DVDD (power), J6 DGND (power), J7 DGND (power), J8 DVDD (power), J9 DVDD (power), J10 DVDD (power), J13 PGND (power), J14 PVDD (power), K1 PVDD (power), K5 DVDD (power), K6 DVDD (power), K7 DVDD (power), K8 DGND (power), K9 DGND (power), K10 DVDD (power), K14 PVDD (power), L4 GND (power), L5 GND (power), L7 DGND (power), L10 DVDD (power), N7 PGND (power), N8 PGND (power), P5 PVDD (power), P6 PVDD (power), P7 PGND (power), P8 PGND (power), P9 PVDD (power), P10 PVDD (power)

## SCAN926260TUF/NOPB
designator U?
Six 1 to 10 Bus LVDS Deserializers with IEEE 1149.1 and At-Speed BIST, 196-pin LBGA, Pb-Free; PartNumber: SCAN926260TUF/NOPB; Manufacturer: National Semiconductor; PackageTopMarking: NSUZXYYTTE#*SCAN926260T*UF*BBBBB; PowerWise: N; CompType: Interface IC; Published: 1-Mar-2010; DatasheetVersion: May-2008; PackageVersion: revC, Jul-2005; PackageReference: UJB196A; Publisher: Altium Limited; PackageDescription: LBGA, 15 x 15 x 1.37mm, 196 Ball, 1.0mm Pitch; Supplier 1: Digi-Key; Supplier Part Number 1: SCAN926260TUF-ND; RoHS: Y; PinCount: 196; Code_JEDEC: MO-192-AAE-1; ComponentLink1Description: SCAN926260 Datasheet; ComponentLink1URL: http://www.national.com/ds/SC/SCAN926260.pdf; ComponentLink2Description: SCAN926260 Web Page; ComponentLink2URL: http://www.national.com/pf/SC/SCAN926260.html; ComponentLink3Description: UJB196A Package Page; ComponentLink3URL: http://www.national.com/packaging/folders/ujb196a.html
footprint UJB196A (BGA, 196-Leads, Body 15x15mm, Pitch 1mm)
part A pins: A2 REN (in), A3 RIN0- (in), A4 RIN0+ (in), A6 RIN2- (in), A7 RIN2+ (in), A9 RIN4- (in), A10 RIN4+ (in), A12 ~{PWRDWN1} (in), A13 ~{PWRDWN0} (in), B4 REFCLK (in), B5 ~{MS_PWRDWN} (in), B10 BISTMODE_REQ (in), C1 TMS (in), C2 ~{TRST} (in), C3 ~{PWRDWN2} (in), C5 RIN1- (in), C6 RIN1+ (in), C8 RIN3- (in), C9 RIN3+ (in), C10 RIN5- (in), C11 RIN5+ (in), C12 ~{PWRDWN5} (in), C14 BIST_SEL2 (in), D1 TDI (in), D2 TCK (in), D3 TDO (out), D8 BIST_SEL0 (in), D13 ~{LOCK5} (out), D14 BIST_SEL1 (in), E2 ROUT09 (out), E4 ROUT08 (out), E11 ~{PWRDWN3} (in), E12 ROUT57 (out), E13 ROUT58 (out), E14 ROUT59 (out), F2 RCLK0 (out), F3 ~{LOCK0} (out), F4 ROUT07 (out), F11 ~{PWRDWN4} (in), F13 RCLK5 (out), G3 ROUT06 (out), G4 ROUT05 (out), G11 ROUT55 (out), G12 ROUT56 (out), H2 ROUT04 (out), H3 ROUT02 (out), H4 ROUT03 (out), H11 ROUT54 (out), H12 ROUT53 (out), J2 ROUT12 (out), J3 ROUT10 (out), J11 ROUT52 (out), J12 ROUT51 (out), K2 ROUT14 (out), K3 ROUT00 (out), K4 ROUT01 (out), K11 BIST_ACT (in), K12 ROUT50 (out), K13 ROUT40 (out), L1 ROUT13 (out), L2 RCLK1 (out), L3 ROUT11 (out), L6 ROUT21 (out), L8 ROUT31 (out), L9 ROUT34 (out), L11 ROUT45 (out), L12 ROUT41 (out), L13 ROUT44 (out), L14 ROUT42 (out), M1 ROUT15 (out), M2 ROUT18 (out), M3 ROUT19 (out), M4 ROUT29 (out), M5 ROUT25 (out), M6 ROUT23 (out), M7 ROUT20 (out), M8 ROUT30 (out), M9 ROUT33 (out), M10 ROUT35 (out), M11 ROUT36 (out), M12 ROUT46 (out), M13 RCLK4 (out), M14 ROUT43 (out), N1 ROUT16 (out), N2 ROUT17 (out), N3 ~{LOCK2} (out), N4 ROUT27 (out), N5 RCLK2 (out), N6 ROUT22 (out), N9 ROUT32 (out), N10 RCLK3 (out), N11 ROUT37 (out), N12 ROUT39 (out), N13 ROUT47 (out), N14 ROUT48 (out), P1 ~{LOCK1} (out), P2 ROUT28 (out), P3 ROUT26 (out), P4 ROUT24 (out), P11 ROUT38 (out), P12 ~{LOCK3} (out), P13 ~{LOCK4} (out), P14 ROUT49 (out)
part B pins: A1 DGND (power), A5 AGND (power), A8 AGND (power), A11 AVDD (power), A14 PGND (power), B1 DVDD (power), B2 GND (power), B3 DVDD (power), B6 AVDD (power), B7 AGND (power), B8 AGND (power), B9 AVDD (power), B11 AGND (power), B12 PGND (power), B13 NC, B14 GND (power), C4 DVDD (power), C7 AVDD (power), C13 NC, D4 DGND (power), D5 DGND (power), D6 DVDD (power), D7 DGND (power), D9 DGND (power), D10 PGND (power), D11 DGND (power), D12 DVDD (power), E1 PVDD (power), E3 NC, E5 DGND (power), E6 DVDD (power), E7 DVDD (power), E8 DGND (power), E9 DVDD (power), E10 DVDD (power), F1 PVDD (power), F5 DGND (power), F6 DGND (power), F7 DVDD (power), F8 DGND (power), F9 DGND (power), F10 DVDD (power), F12 DVDD (power), F14 PVDD (power), G1 PGND (power), G2 PGND (power), G5 DGND (power), G6 DVDD (power), G7 DGND (power), G8 DGND (power), G9 DGND (power), G10 DVDD (power), G13 PGND (power), G14 PVDD (power), H1 PGND (power), H5 DGND (power), H6 DVDD (power), H7 DGND (power), H8 DGND (power), H9 DGND (power), H10 DVDD (power), H13 PGND (power), H14 PGND (power), J1 PVDD (power), J4 PGND (power), J5 DVDD (power), J6 DGND (power), J7 DGND (power), J8 DVDD (power), J9 DVDD (power), J10 DVDD (power), J13 PGND (power), J14 PVDD (power), K1 PVDD (power), K5 DVDD (power), K6 DVDD (power), K7 DVDD (power), K8 DGND (power), K9 DGND (power), K10 DVDD (power), K14 PVDD (power), L4 GND (power), L5 GND (power), L7 DGND (power), L10 DVDD (power), N7 PGND (power), N8 PGND (power), P5 PVDD (power), P6 PVDD (power), P7 PGND (power), P8 PGND (power), P9 PVDD (power), P10 PVDD (power)

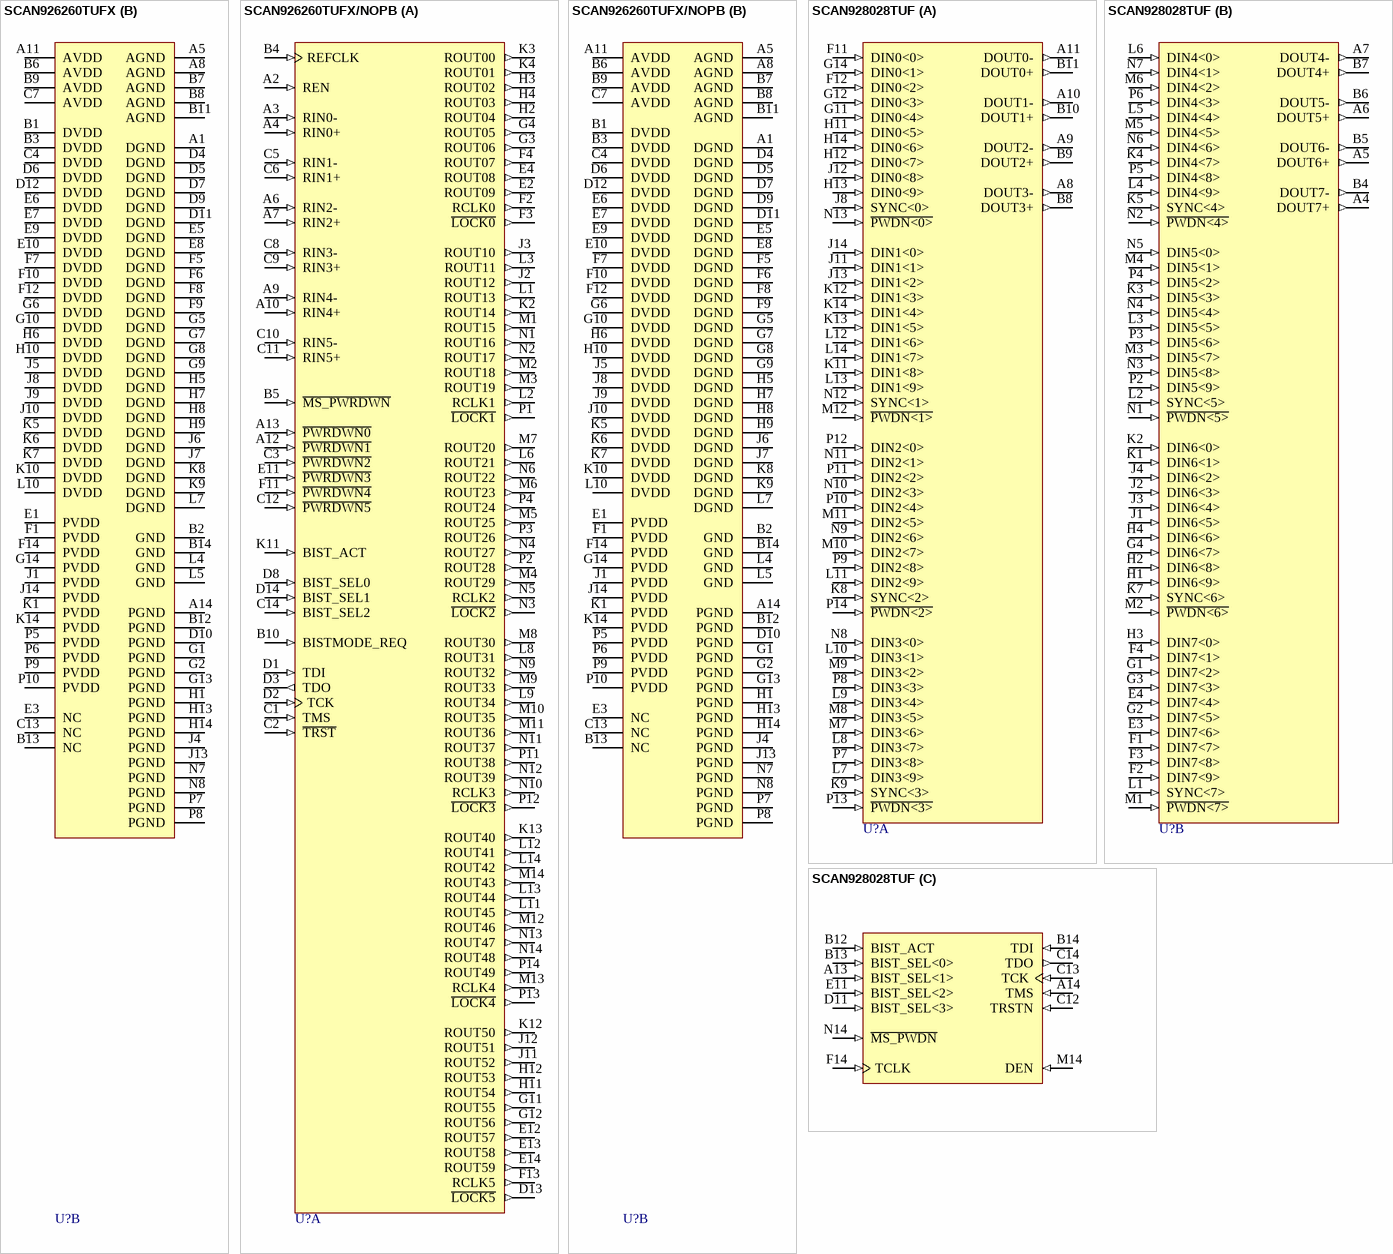
[diagram p106: symbols SCAN926260TUFX to SCAN928028TUF]

## SCAN926260TUFX
designator U?
Six 1 to 10 Bus LVDS Deserializers with IEEE 1149.1 and At-Speed BIST, 196-pin LBGA; PartNumber: SCAN926260TUFX; Manufacturer: National Semiconductor; PackageTopMarking: NSUZXYYTTE#*SCAN926260T*UF*BBBBB; PowerWise: N; CompType: Interface IC; Published: 1-Mar-2010; DatasheetVersion: May-2008; PackageVersion: revC, Jul-2005; PackageReference: UJB196A; Publisher: Altium Limited; PackageDescription: LBGA, 15 x 15 x 1.37mm, 196 Ball, 1.0mm Pitch; RoHS: N; PinCount: 196; Code_JEDEC: MO-192-AAE-1; ComponentLink1Description: SCAN926260 Datasheet; ComponentLink1URL: http://www.national.com/ds/SC/SCAN926260.pdf; ComponentLink2Description: SCAN926260 Web Page; ComponentLink2URL: http://www.national.com/pf/SC/SCAN926260.html; ComponentLink3Description: UJB196A Package Page; ComponentLink3URL: http://www.national.com/packaging/folders/ujb196a.html
footprint UJB196A (BGA, 196-Leads, Body 15x15mm, Pitch 1mm)
part A pins: A2 REN (in), A3 RIN0- (in), A4 RIN0+ (in), A6 RIN2- (in), A7 RIN2+ (in), A9 RIN4- (in), A10 RIN4+ (in), A12 ~{PWRDWN1} (in), A13 ~{PWRDWN0} (in), B4 REFCLK (in), B5 ~{MS_PWRDWN} (in), B10 BISTMODE_REQ (in), C1 TMS (in), C2 ~{TRST} (in), C3 ~{PWRDWN2} (in), C5 RIN1- (in), C6 RIN1+ (in), C8 RIN3- (in), C9 RIN3+ (in), C10 RIN5- (in), C11 RIN5+ (in), C12 ~{PWRDWN5} (in), C14 BIST_SEL2 (in), D1 TDI (in), D2 TCK (in), D3 TDO (out), D8 BIST_SEL0 (in), D13 ~{LOCK5} (out), D14 BIST_SEL1 (in), E2 ROUT09 (out), E4 ROUT08 (out), E11 ~{PWRDWN3} (in), E12 ROUT57 (out), E13 ROUT58 (out), E14 ROUT59 (out), F2 RCLK0 (out), F3 ~{LOCK0} (out), F4 ROUT07 (out), F11 ~{PWRDWN4} (in), F13 RCLK5 (out), G3 ROUT06 (out), G4 ROUT05 (out), G11 ROUT55 (out), G12 ROUT56 (out), H2 ROUT04 (out), H3 ROUT02 (out), H4 ROUT03 (out), H11 ROUT54 (out), H12 ROUT53 (out), J2 ROUT12 (out), J3 ROUT10 (out), J11 ROUT52 (out), J12 ROUT51 (out), K2 ROUT14 (out), K3 ROUT00 (out), K4 ROUT01 (out), K11 BIST_ACT (in), K12 ROUT50 (out), K13 ROUT40 (out), L1 ROUT13 (out), L2 RCLK1 (out), L3 ROUT11 (out), L6 ROUT21 (out), L8 ROUT31 (out), L9 ROUT34 (out), L11 ROUT45 (out), L12 ROUT41 (out), L13 ROUT44 (out), L14 ROUT42 (out), M1 ROUT15 (out), M2 ROUT18 (out), M3 ROUT19 (out), M4 ROUT29 (out), M5 ROUT25 (out), M6 ROUT23 (out), M7 ROUT20 (out), M8 ROUT30 (out), M9 ROUT33 (out), M10 ROUT35 (out), M11 ROUT36 (out), M12 ROUT46 (out), M13 RCLK4 (out), M14 ROUT43 (out), N1 ROUT16 (out), N2 ROUT17 (out), N3 ~{LOCK2} (out), N4 ROUT27 (out), N5 RCLK2 (out), N6 ROUT22 (out), N9 ROUT32 (out), N10 RCLK3 (out), N11 ROUT37 (out), N12 ROUT39 (out), N13 ROUT47 (out), N14 ROUT48 (out), P1 ~{LOCK1} (out), P2 ROUT28 (out), P3 ROUT26 (out), P4 ROUT24 (out), P11 ROUT38 (out), P12 ~{LOCK3} (out), P13 ~{LOCK4} (out), P14 ROUT49 (out)
part B pins: A1 DGND (power), A5 AGND (power), A8 AGND (power), A11 AVDD (power), A14 PGND (power), B1 DVDD (power), B2 GND (power), B3 DVDD (power), B6 AVDD (power), B7 AGND (power), B8 AGND (power), B9 AVDD (power), B11 AGND (power), B12 PGND (power), B13 NC, B14 GND (power), C4 DVDD (power), C7 AVDD (power), C13 NC, D4 DGND (power), D5 DGND (power), D6 DVDD (power), D7 DGND (power), D9 DGND (power), D10 PGND (power), D11 DGND (power), D12 DVDD (power), E1 PVDD (power), E3 NC, E5 DGND (power), E6 DVDD (power), E7 DVDD (power), E8 DGND (power), E9 DVDD (power), E10 DVDD (power), F1 PVDD (power), F5 DGND (power), F6 DGND (power), F7 DVDD (power), F8 DGND (power), F9 DGND (power), F10 DVDD (power), F12 DVDD (power), F14 PVDD (power), G1 PGND (power), G2 PGND (power), G5 DGND (power), G6 DVDD (power), G7 DGND (power), G8 DGND (power), G9 DGND (power), G10 DVDD (power), G13 PGND (power), G14 PVDD (power), H1 PGND (power), H5 DGND (power), H6 DVDD (power), H7 DGND (power), H8 DGND (power), H9 DGND (power), H10 DVDD (power), H13 PGND (power), H14 PGND (power), J1 PVDD (power), J4 PGND (power), J5 DVDD (power), J6 DGND (power), J7 DGND (power), J8 DVDD (power), J9 DVDD (power), J10 DVDD (power), J13 PGND (power), J14 PVDD (power), K1 PVDD (power), K5 DVDD (power), K6 DVDD (power), K7 DVDD (power), K8 DGND (power), K9 DGND (power), K10 DVDD (power), K14 PVDD (power), L4 GND (power), L5 GND (power), L7 DGND (power), L10 DVDD (power), N7 PGND (power), N8 PGND (power), P5 PVDD (power), P6 PVDD (power), P7 PGND (power), P8 PGND (power), P9 PVDD (power), P10 PVDD (power)

## SCAN926260TUFX/NOPB
designator U?
Six 1 to 10 Bus LVDS Deserializers with IEEE 1149.1 and At-Speed BIST, 196-pin LBGA, Pb-Free; PartNumber: SCAN926260TUFX/NOPB; Manufacturer: National Semiconductor; PackageTopMarking: NSUZXYYTTE#*SCAN926260T*UF*BBBBB; PowerWise: N; CompType: Interface IC; Published: 1-Mar-2010; DatasheetVersion: May-2008; PackageVersion: revC, Jul-2005; PackageReference: UJB196A; Publisher: Altium Limited; PackageDescription: LBGA, 15 x 15 x 1.37mm, 196 Ball, 1.0mm Pitch; Supplier 1: Digi-Key; Supplier Part Number 1: SCAN926260TUFX-ND; RoHS: Y; PinCount: 196; Code_JEDEC: MO-192-AAE-1; ComponentLink1Description: SCAN926260 Datasheet; ComponentLink1URL: http://www.national.com/ds/SC/SCAN926260.pdf; ComponentLink2Description: SCAN926260 Web Page; ComponentLink2URL: http://www.national.com/pf/SC/SCAN926260.html; ComponentLink3Description: UJB196A Package Page; ComponentLink3URL: http://www.national.com/packaging/folders/ujb196a.html
footprint UJB196A (BGA, 196-Leads, Body 15x15mm, Pitch 1mm)
part A pins: A2 REN (in), A3 RIN0- (in), A4 RIN0+ (in), A6 RIN2- (in), A7 RIN2+ (in), A9 RIN4- (in), A10 RIN4+ (in), A12 ~{PWRDWN1} (in), A13 ~{PWRDWN0} (in), B4 REFCLK (in), B5 ~{MS_PWRDWN} (in), B10 BISTMODE_REQ (in), C1 TMS (in), C2 ~{TRST} (in), C3 ~{PWRDWN2} (in), C5 RIN1- (in), C6 RIN1+ (in), C8 RIN3- (in), C9 RIN3+ (in), C10 RIN5- (in), C11 RIN5+ (in), C12 ~{PWRDWN5} (in), C14 BIST_SEL2 (in), D1 TDI (in), D2 TCK (in), D3 TDO (out), D8 BIST_SEL0 (in), D13 ~{LOCK5} (out), D14 BIST_SEL1 (in), E2 ROUT09 (out), E4 ROUT08 (out), E11 ~{PWRDWN3} (in), E12 ROUT57 (out), E13 ROUT58 (out), E14 ROUT59 (out), F2 RCLK0 (out), F3 ~{LOCK0} (out), F4 ROUT07 (out), F11 ~{PWRDWN4} (in), F13 RCLK5 (out), G3 ROUT06 (out), G4 ROUT05 (out), G11 ROUT55 (out), G12 ROUT56 (out), H2 ROUT04 (out), H3 ROUT02 (out), H4 ROUT03 (out), H11 ROUT54 (out), H12 ROUT53 (out), J2 ROUT12 (out), J3 ROUT10 (out), J11 ROUT52 (out), J12 ROUT51 (out), K2 ROUT14 (out), K3 ROUT00 (out), K4 ROUT01 (out), K11 BIST_ACT (in), K12 ROUT50 (out), K13 ROUT40 (out), L1 ROUT13 (out), L2 RCLK1 (out), L3 ROUT11 (out), L6 ROUT21 (out), L8 ROUT31 (out), L9 ROUT34 (out), L11 ROUT45 (out), L12 ROUT41 (out), L13 ROUT44 (out), L14 ROUT42 (out), M1 ROUT15 (out), M2 ROUT18 (out), M3 ROUT19 (out), M4 ROUT29 (out), M5 ROUT25 (out), M6 ROUT23 (out), M7 ROUT20 (out), M8 ROUT30 (out), M9 ROUT33 (out), M10 ROUT35 (out), M11 ROUT36 (out), M12 ROUT46 (out), M13 RCLK4 (out), M14 ROUT43 (out), N1 ROUT16 (out), N2 ROUT17 (out), N3 ~{LOCK2} (out), N4 ROUT27 (out), N5 RCLK2 (out), N6 ROUT22 (out), N9 ROUT32 (out), N10 RCLK3 (out), N11 ROUT37 (out), N12 ROUT39 (out), N13 ROUT47 (out), N14 ROUT48 (out), P1 ~{LOCK1} (out), P2 ROUT28 (out), P3 ROUT26 (out), P4 ROUT24 (out), P11 ROUT38 (out), P12 ~{LOCK3} (out), P13 ~{LOCK4} (out), P14 ROUT49 (out)
part B pins: A1 DGND (power), A5 AGND (power), A8 AGND (power), A11 AVDD (power), A14 PGND (power), B1 DVDD (power), B2 GND (power), B3 DVDD (power), B6 AVDD (power), B7 AGND (power), B8 AGND (power), B9 AVDD (power), B11 AGND (power), B12 PGND (power), B13 NC, B14 GND (power), C4 DVDD (power), C7 AVDD (power), C13 NC, D4 DGND (power), D5 DGND (power), D6 DVDD (power), D7 DGND (power), D9 DGND (power), D10 PGND (power), D11 DGND (power), D12 DVDD (power), E1 PVDD (power), E3 NC, E5 DGND (power), E6 DVDD (power), E7 DVDD (power), E8 DGND (power), E9 DVDD (power), E10 DVDD (power), F1 PVDD (power), F5 DGND (power), F6 DGND (power), F7 DVDD (power), F8 DGND (power), F9 DGND (power), F10 DVDD (power), F12 DVDD (power), F14 PVDD (power), G1 PGND (power), G2 PGND (power), G5 DGND (power), G6 DVDD (power), G7 DGND (power), G8 DGND (power), G9 DGND (power), G10 DVDD (power), G13 PGND (power), G14 PVDD (power), H1 PGND (power), H5 DGND (power), H6 DVDD (power), H7 DGND (power), H8 DGND (power), H9 DGND (power), H10 DVDD (power), H13 PGND (power), H14 PGND (power), J1 PVDD (power), J4 PGND (power), J5 DVDD (power), J6 DGND (power), J7 DGND (power), J8 DVDD (power), J9 DVDD (power), J10 DVDD (power), J13 PGND (power), J14 PVDD (power), K1 PVDD (power), K5 DVDD (power), K6 DVDD (power), K7 DVDD (power), K8 DGND (power), K9 DGND (power), K10 DVDD (power), K14 PVDD (power), L4 GND (power), L5 GND (power), L7 DGND (power), L10 DVDD (power), N7 PGND (power), N8 PGND (power), P5 PVDD (power), P6 PVDD (power), P7 PGND (power), P8 PGND (power), P9 PVDD (power), P10 PVDD (power)

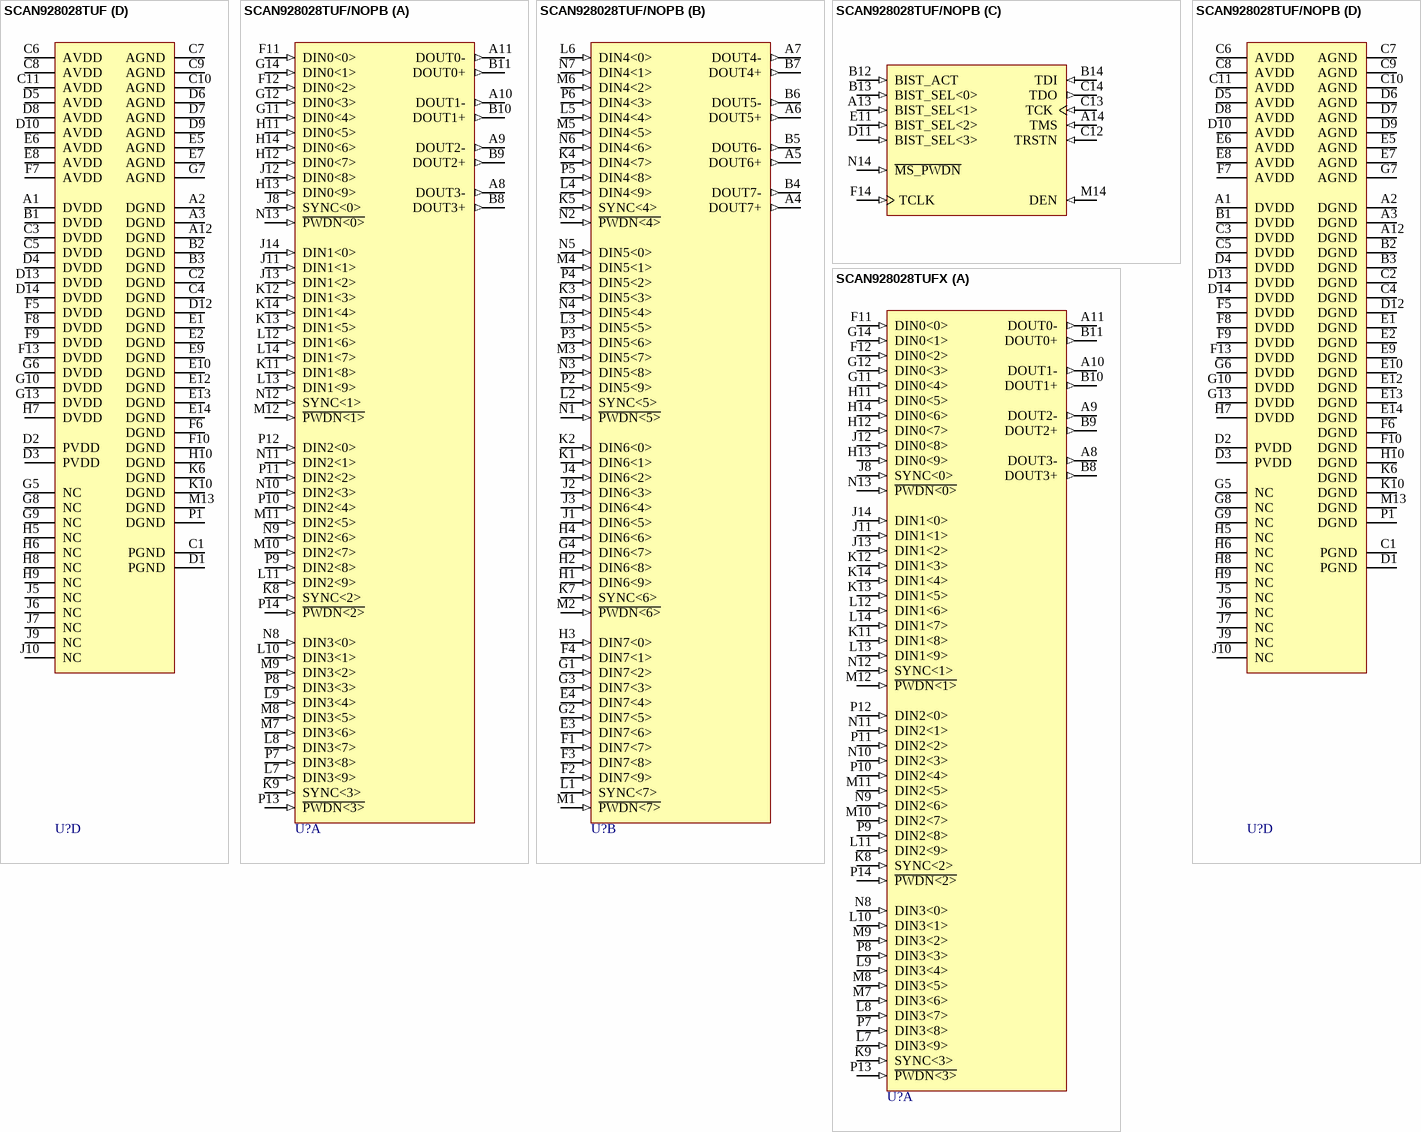
[diagram p107: symbols SCAN928028TUF to SCAN928028TUFX]